# Altium footprint library SOT95P280X100-6L30N.PcbLib: 1 footprints
Each footprint in its own frame and in the unit in brackets; x right, y up, seen from the top. Pads: shape width x height; smd on the part's side, far side on the other; paste and mask are expansions set on the pad; w line width, h text height; cw(c..) or ccw(c..) is an arc to the next point about the centre after c.
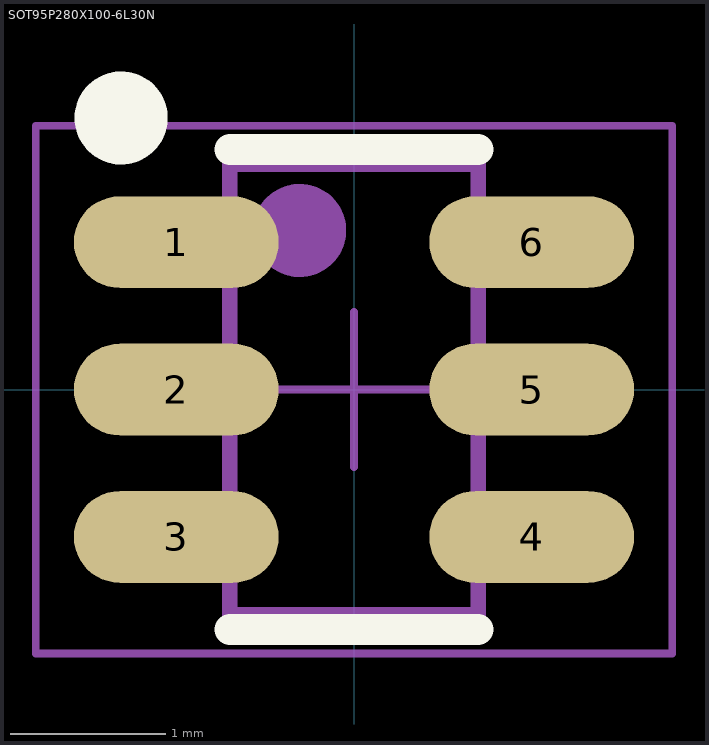
[diagram p0: the footprint, top view; thin cyan lines are the x and y axes]

## SOT95P280X100-6L30N [mm] "Small Outline Transistor (SOT23), 0.95 mm pitch; 6 pin, 2.90 mm L X 1.60 mm W X 1.00 mm H body"
height 1
pads (6):
  oval 1.32x0.59 smd: 1(-1.145,0.95) 2(-1.145,0) 3(-1.145,-0.95) 4(1.145,-0.95) 5(1.145,0) 6(1.145,0.95)
Top Overlay:
  circle w0.3: c-1.5,1.75 r0.15
  lines w0.2: -0.8,-1.545 0.8,-1.545 ; -0.8,1.545 0.8,1.545
Top Assembly:
  circle w0.3: c-0.35,1.025 r0.15
  lines w0.1: -0.8,-1.45 0.8,-1.45 0.8,1.45 -0.8,1.45 -0.8,-1.45
Top Courtyard:
  lines w0.05: -2.05,-1.7 2.05,-1.7 2.05,1.7 -2.05,1.7 -2.05,-1.7
Top Designator:
  text ".Designator" at -1,-0.5 h1
Top Component Center:
  lines w0.05: -0.5,0 0.5,0 ; 0,-0.5 0,0.5
3D body "SOT95P280X100-6L30.STEP": height 1, standoff 0, extent -1.4,-1.45 1.4,1.45